# Altium integrated library Microchip Mixed Signal.IntLib: 1399 symbols (part 8 of 39)
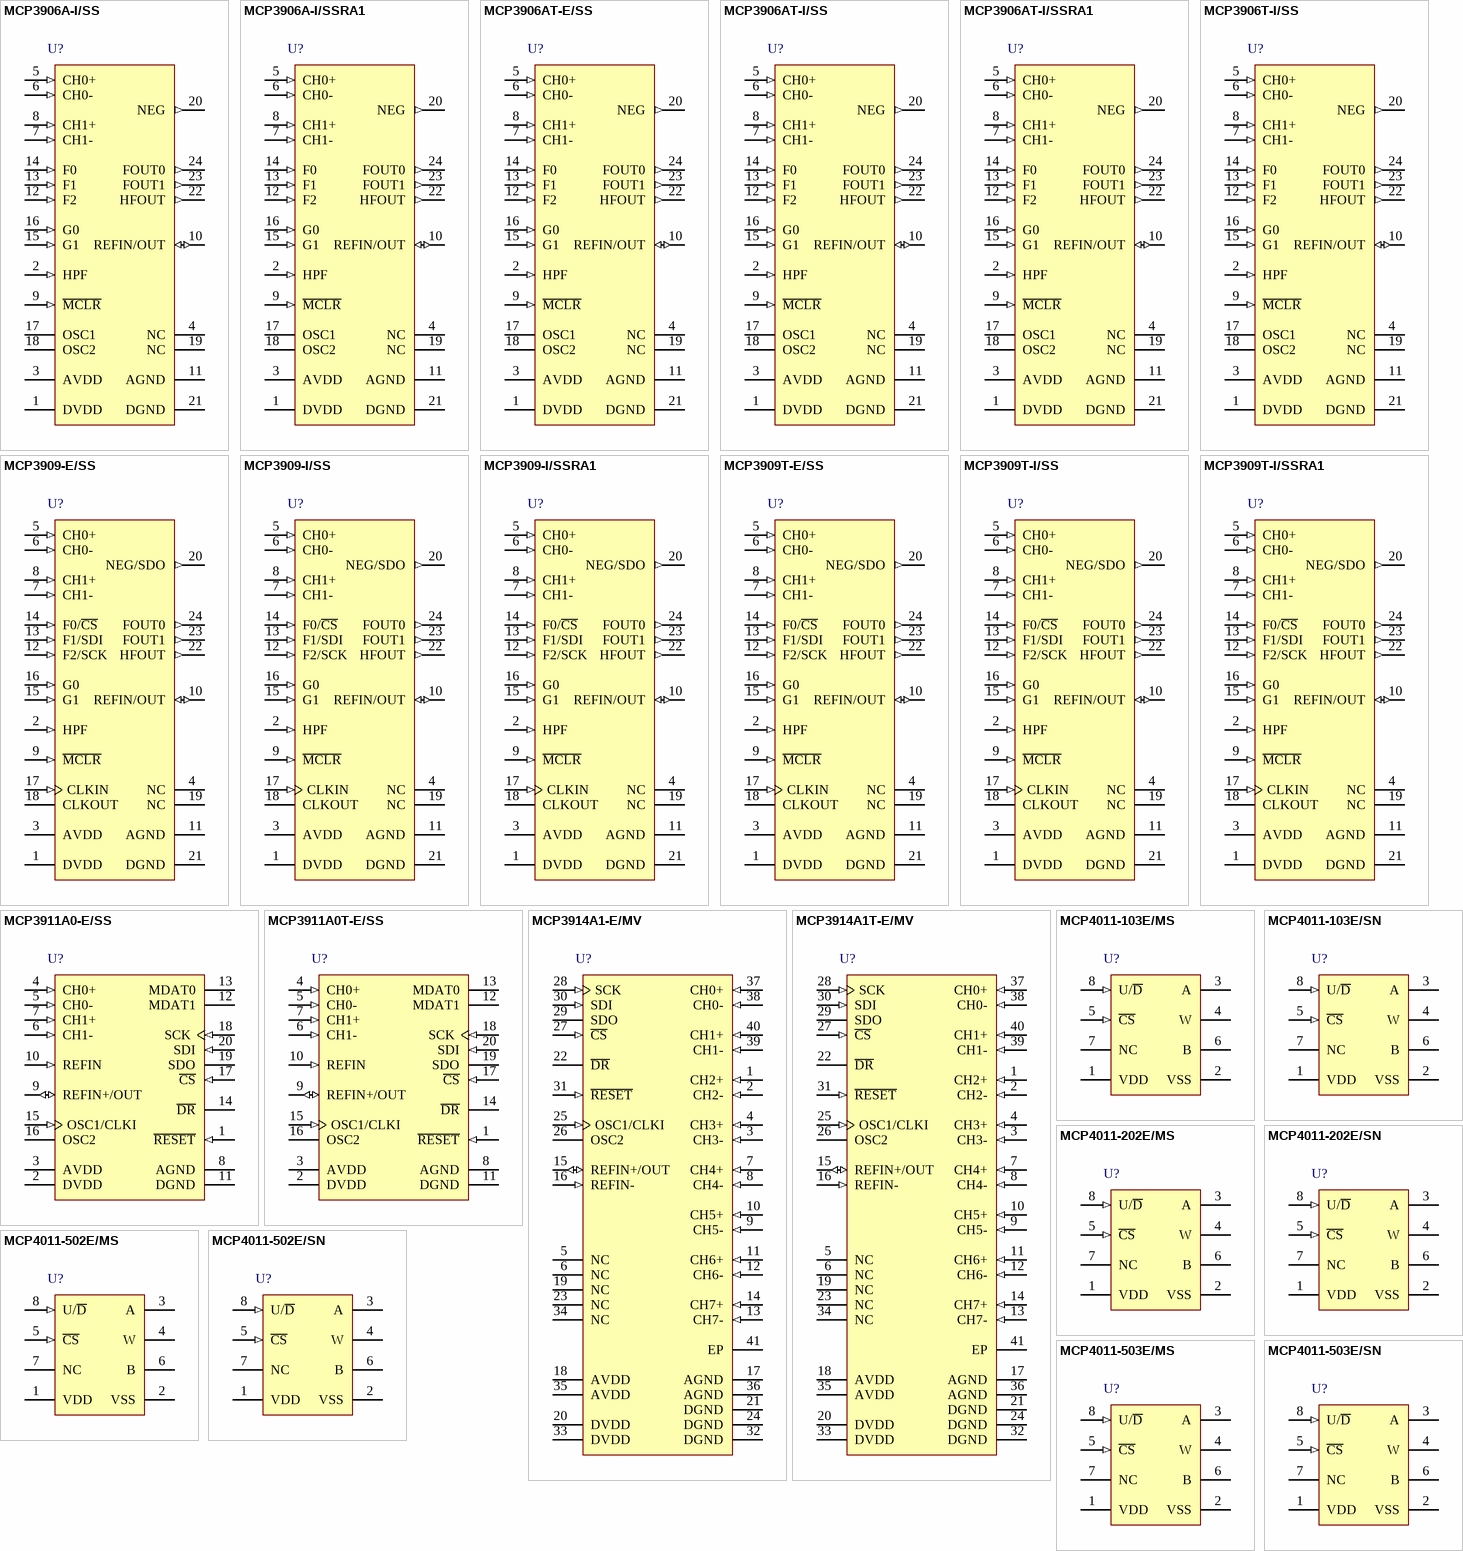
[diagram p51: symbols MCP3906A-I/SS to MCP4011-503E/SN]

## MCP3909-I/SSRA1
designator U?
Energy Metering IC with SPI Interface and Active Power Pulse Output, 24-Pin SSOP 208mil, Industrial Temperature; Manufacturer: Microchip; PartNumber: MCP3909-I/SSRA1; DatasheetVersion: revB, Apr-2009; PackageVersion: revBB, Aug-2009; PackageReference: SSOP-SS24; PackageDescription: 24-Lead Plastic Shrink Small Outline (SS) - 5.3mm Body [SSOP]; Mounting Technology: Surface Mount; Code_JEDEC: MO-150-AG; ComponentLink1Description: Manufacturer URL; ComponentLink1URL: http://www.microchip.com/; ComponentLink2Description: Datasheet; ComponentLink2URL: http://ww1.microchip.com/downloads/en/DeviceDoc/22025b.pdf; ComponentLink3Description: Package Specification; ComponentLink3URL: http://www.microchip.com/stellent/groups/techpub_sg/documents/packagingspec/en012702.pdf
footprint SSOP-SS24_N (SOP, 24-Leads, Body 8.2x5.3mm, Pitch 0.65mm, IPC Medium Density)
footprint SSOP-SS24_L (SOP, 24-Leads, Body 8.2x5.3mm, Pitch 0.65mm, IPC High Density)
footprint SSOP-SS24_M (SOP, 24-Leads, Body 8.2x5.3mm, Pitch 0.65mm, IPC Low Density)
pins: 1 DVDD (power), 2 HPF (in), 3 AVDD (power), 4 NC, 5 CH0+ (in), 6 CH0- (in), 7 CH1- (in), 8 CH1+ (in), 9 ~{MCLR} (in), 10 REFIN/OUT (io), 11 AGND (power), 12 F2/SCK (in), 13 F1/SDI (in), 14 F0/~{CS} (in), 15 G1 (in), 16 G0 (in), 17 CLKIN (in), 18 CLKOUT, 19 NC, 20 NEG/SDO (out), 21 DGND (power), 22 HFOUT (out), 23 FOUT1 (out), 24 FOUT0 (out)

## MCP3909T-E/SS
designator U?
Energy Metering IC with SPI Interface and Active Power Pulse Output, 24-Pin SSOP 208mil, Extended Temperature, Tape and Reel; Manufacturer: Microchip; PartNumber: MCP3909T-E/SS; DatasheetVersion: revB, Apr-2009; PackageVersion: revBB, Aug-2009; PackageReference: SSOP-SS24; PackageDescription: 24-Lead Plastic Shrink Small Outline (SS) - 5.3mm Body [SSOP]; Supplier 1: Digi-Key; Supplier Part Number 1: MCP3909T-E/SS-ND; Supplier 2: Mouser; Supplier Part Number 2: 579-MCP3909T-E/SS; Mounting Technology: Surface Mount; Code_JEDEC: MO-150-AG; ComponentLink1Description: Manufacturer URL; ComponentLink1URL: http://www.microchip.com/; ComponentLink2Description: Datasheet; ComponentLink2URL: http://ww1.microchip.com/downloads/en/DeviceDoc/22025b.pdf; ComponentLink3Description: Package Specification; ComponentLink3URL: http://www.microchip.com/stellent/groups/techpub_sg/documents/packagingspec/en012702.pdf
footprint SSOP-SS24_N (SOP, 24-Leads, Body 8.2x5.3mm, Pitch 0.65mm, IPC Medium Density)
footprint SSOP-SS24_L (SOP, 24-Leads, Body 8.2x5.3mm, Pitch 0.65mm, IPC High Density)
footprint SSOP-SS24_M (SOP, 24-Leads, Body 8.2x5.3mm, Pitch 0.65mm, IPC Low Density)
pins: 1 DVDD (power), 2 HPF (in), 3 AVDD (power), 4 NC, 5 CH0+ (in), 6 CH0- (in), 7 CH1- (in), 8 CH1+ (in), 9 ~{MCLR} (in), 10 REFIN/OUT (io), 11 AGND (power), 12 F2/SCK (in), 13 F1/SDI (in), 14 F0/~{CS} (in), 15 G1 (in), 16 G0 (in), 17 CLKIN (in), 18 CLKOUT, 19 NC, 20 NEG/SDO (out), 21 DGND (power), 22 HFOUT (out), 23 FOUT1 (out), 24 FOUT0 (out)

## MCP3909T-I/SS
designator U?
Energy Metering IC with SPI Interface and Active Power Pulse Output, 24-Pin SSOP 208mil, Industrial Temperature, Tape and Reel; Manufacturer: Microchip; PartNumber: MCP3909T-I/SS; DatasheetVersion: revB, Apr-2009; PackageVersion: revBB, Aug-2009; PackageReference: SSOP-SS24; PackageDescription: 24-Lead Plastic Shrink Small Outline (SS) - 5.3mm Body [SSOP]; Supplier 1: Digi-Key; Supplier Part Number 1: MCP3909T-I/SSTR-ND; Supplier 2: Newark; Supplier Part Number 2: 17M0646; Supplier 3: Mouser; Supplier Part Number 3: 579-MCP3909T-I/SS; Mounting Technology: Surface Mount; Code_JEDEC: MO-150-AG; ComponentLink1Description: Manufacturer URL; ComponentLink1URL: http://www.microchip.com/; ComponentLink2Description: Datasheet; ComponentLink2URL: http://ww1.microchip.com/downloads/en/DeviceDoc/22025b.pdf; ComponentLink3Description: Package Specification; ComponentLink3URL: http://www.microchip.com/stellent/groups/techpub_sg/documents/packagingspec/en012702.pdf
footprint SSOP-SS24_N (SOP, 24-Leads, Body 8.2x5.3mm, Pitch 0.65mm, IPC Medium Density)
footprint SSOP-SS24_L (SOP, 24-Leads, Body 8.2x5.3mm, Pitch 0.65mm, IPC High Density)
footprint SSOP-SS24_M (SOP, 24-Leads, Body 8.2x5.3mm, Pitch 0.65mm, IPC Low Density)
pins: 1 DVDD (power), 2 HPF (in), 3 AVDD (power), 4 NC, 5 CH0+ (in), 6 CH0- (in), 7 CH1- (in), 8 CH1+ (in), 9 ~{MCLR} (in), 10 REFIN/OUT (io), 11 AGND (power), 12 F2/SCK (in), 13 F1/SDI (in), 14 F0/~{CS} (in), 15 G1 (in), 16 G0 (in), 17 CLKIN (in), 18 CLKOUT, 19 NC, 20 NEG/SDO (out), 21 DGND (power), 22 HFOUT (out), 23 FOUT1 (out), 24 FOUT0 (out)

## MCP3909T-I/SSRA1
designator U?
Energy Metering IC with SPI Interface and Active Power Pulse Output, 24-Pin SSOP 208mil, Industrial Temperature, Tape and Reel; Manufacturer: Microchip; PartNumber: MCP3909T-I/SSRA1; DatasheetVersion: revB, Apr-2009; PackageVersion: revBB, Aug-2009; PackageReference: SSOP-SS24; PackageDescription: 24-Lead Plastic Shrink Small Outline (SS) - 5.3mm Body [SSOP]; Mounting Technology: Surface Mount; Code_JEDEC: MO-150-AG; ComponentLink1Description: Manufacturer URL; ComponentLink1URL: http://www.microchip.com/; ComponentLink2Description: Datasheet; ComponentLink2URL: http://ww1.microchip.com/downloads/en/DeviceDoc/22025b.pdf; ComponentLink3Description: Package Specification; ComponentLink3URL: http://www.microchip.com/stellent/groups/techpub_sg/documents/packagingspec/en012702.pdf
footprint SSOP-SS24_N (SOP, 24-Leads, Body 8.2x5.3mm, Pitch 0.65mm, IPC Medium Density)
footprint SSOP-SS24_L (SOP, 24-Leads, Body 8.2x5.3mm, Pitch 0.65mm, IPC High Density)
footprint SSOP-SS24_M (SOP, 24-Leads, Body 8.2x5.3mm, Pitch 0.65mm, IPC Low Density)
pins: 1 DVDD (power), 2 HPF (in), 3 AVDD (power), 4 NC, 5 CH0+ (in), 6 CH0- (in), 7 CH1- (in), 8 CH1+ (in), 9 ~{MCLR} (in), 10 REFIN/OUT (io), 11 AGND (power), 12 F2/SCK (in), 13 F1/SDI (in), 14 F0/~{CS} (in), 15 G1 (in), 16 G0 (in), 17 CLKIN (in), 18 CLKOUT, 19 NC, 20 NEG/SDO (out), 21 DGND (power), 22 HFOUT (out), 23 FOUT1 (out), 24 FOUT0 (out)

## MCP3911A0-E/SS
designator U?
3.3 V Two-Channel Analog Front End, 7 ppm Voltage Reference Drift, 2.7 to 3.6 V Analog Supply, -40 to 125 degC, 20-pin SSOP (SS20), Tube; Manufacturer: Microchip; PartNumber: MCP3911A0-E/SS; DatasheetVersion: Rev. A; PackageVersion: C04-072B; PackageReference: SSOP-SS20; PackageDescription: 20-Lead Plastic Shrink Small Outline, 5.3 x 7.2 mm Body, 0.65 mm Pitch; Supplier 1: Digi-Key; Supplier Part Number 1: MCP3911A0-E/SS-ND; Supplier 2: Farnell; Supplier Part Number 2: 2113275; Supplier 3: Newark; Supplier Part Number 3: 76T2235; Supplier 4: Mouser; Supplier Part Number 4: 579-MCP3911A0-E/SS; Mounting Technology: Surface Mount; ComponentLink1Description: Manufacturer URL; ComponentLink1URL: http://www.microchip.com; ComponentLink2Description: Datasheet; ComponentLink2URL: http://ww1.microchip.com/downloads/en/DeviceDoc/22286A.pdf; ComponentLink3Description: Package Specification; ComponentLink3URL: http://www.microchip.com/stellent/groups/techpub_sg/documents/packagingspec/en012702.pdf; ComponentLink4Description: Product URL; ComponentLink4URL: http://www.microchip.com/MCP3911
footprint MCHP-SSOP-SS20_N (SOP, 20-Leads, Body 7.2x5.3mm, Pitch 0.65mm, IPC Medium Density)
footprint MCHP-SSOP-SS20_L (SOP, 20-Leads, Body 7.2x5.3mm, Pitch 0.65mm, IPC High Density)
footprint MCHP-SSOP-SS20_M (SOP, 20-Leads, Body 7.2x5.3mm, Pitch 0.65mm, IPC Low Density)
pins: 1 ~{RESET} (in) "Master Reset Logic Input Pin", 2 DVDD (power) "Digital Power Supply Pin", 3 AVDD (power) "Analog Power Supply Pin", 4 CH0+ (in) "Non-Inverting Analog Input Pin for Channel 0", 5 CH0- (in) "Inverting Analog Input Pin for Channel 0", 6 CH1- (in) "Inverting Analog Input Pin for Channel 1", 7 CH1+ (in) "Non-Inverting Analog Input Pin for Channel 1", 8 AGND (power) "Analog Ground Pin, Return Path for internal analog circuitry", 9 REFIN+/OUT (io) "Non-Inverting Voltage Reference Input and Internal Reference Output Pin", 10 REFIN (in) "Inverting Voltage Reference Input Pin", 11 DGND (power) "Digital Ground Pin, Return Path for internal digital circuitry", 12 MDAT1 (hiz) "Modulator Data Output Pin for Channel 1", 13 MDAT0 (hiz) "Modulator Data Output Pin for Channel 0", 14 ~{DR} (hiz) "Data Ready Signal Output Pin", 15 OSC1/CLKI (in) "Oscillator Crystal Connection Pin or External Clock Input Pin", 16 OSC2 "Oscillator Crystal Connection Pin", 17 ~{CS} (in) "Serial Interface Chip Select Pin", 18 SCK (in) "Serial Interface Clock Input Pin", 19 SDO (hiz) "Serial Interface Data Output Pin", 20 SDI (in) "Serial Interface Data Input Pin"

## MCP3911A0T-E/SS
designator U?
3.3 V Two-Channel Analog Front End, 7 ppm Voltage Reference Drift, 2.7 to 3.6 V Analog Supply, -40 to 125 degC, 20-pin SSOP (SS20), Tape and Reel; Manufacturer: Microchip; PartNumber: MCP3911A0T-E/SS; DatasheetVersion: Rev. A; PackageVersion: C04-072B; PackageReference: SSOP-SS20; PackageDescription: 20-Lead Plastic Shrink Small Outline, 5.3 x 7.2 mm Body, 0.65 mm Pitch; Supplier 1: Digi-Key; Supplier Part Number 1: MCP3911A0T-E/SS-ND; Supplier 2: Newark; Supplier Part Number 2: 76T2237; Supplier 3: Mouser; Supplier Part Number 3: 579-MCP3911A0T-E/SS; Mounting Technology: Surface Mount; ComponentLink1Description: Manufacturer URL; ComponentLink1URL: http://www.microchip.com; ComponentLink2Description: Datasheet; ComponentLink2URL: http://ww1.microchip.com/downloads/en/DeviceDoc/22286A.pdf; ComponentLink3Description: Package Specification; ComponentLink3URL: http://www.microchip.com/stellent/groups/techpub_sg/documents/packagingspec/en012702.pdf; ComponentLink4Description: Product URL; ComponentLink4URL: http://www.microchip.com/MCP3911
footprint MCHP-SSOP-SS20_N (SOP, 20-Leads, Body 7.2x5.3mm, Pitch 0.65mm, IPC Medium Density)
footprint MCHP-SSOP-SS20_L (SOP, 20-Leads, Body 7.2x5.3mm, Pitch 0.65mm, IPC High Density)
footprint MCHP-SSOP-SS20_M (SOP, 20-Leads, Body 7.2x5.3mm, Pitch 0.65mm, IPC Low Density)
pins: 1 ~{RESET} (in) "Master Reset Logic Input Pin", 2 DVDD (power) "Digital Power Supply Pin", 3 AVDD (power) "Analog Power Supply Pin", 4 CH0+ (in) "Non-Inverting Analog Input Pin for Channel 0", 5 CH0- (in) "Inverting Analog Input Pin for Channel 0", 6 CH1- (in) "Inverting Analog Input Pin for Channel 1", 7 CH1+ (in) "Non-Inverting Analog Input Pin for Channel 1", 8 AGND (power) "Analog Ground Pin, Return Path for internal analog circuitry", 9 REFIN+/OUT (io) "Non-Inverting Voltage Reference Input and Internal Reference Output Pin", 10 REFIN (in) "Inverting Voltage Reference Input Pin", 11 DGND (power) "Digital Ground Pin, Return Path for internal digital circuitry", 12 MDAT1 (hiz) "Modulator Data Output Pin for Channel 1", 13 MDAT0 (hiz) "Modulator Data Output Pin for Channel 0", 14 ~{DR} (hiz) "Data Ready Signal Output Pin", 15 OSC1/CLKI (in) "Oscillator Crystal Connection Pin or External Clock Input Pin", 16 OSC2 "Oscillator Crystal Connection Pin", 17 ~{CS} (in) "Serial Interface Chip Select Pin", 18 SCK (in) "Serial Interface Clock Input Pin", 19 SDO (hiz) "Serial Interface Data Output Pin", 20 SDI (in) "Serial Interface Data Input Pin"

## MCP3914A1-E/MV
designator U?
3 V Eight-Channel Analog Front End, Extended Temperature, 40-Pin UQFN (MV40), Tube; Manufacturer: Microchip; PartNumber: MCP3914A1-E/MV; VCC Range: 2.7 to 3.6 V; DatasheetVersion: Rev. A; PackageVersion: C04-156A, 04/2013; PackageReference: UQFN-MV40; PackageDescription: 40-Lead Plastic Ultra Thin Quad Flat, No Lead Package, Body 5 x 5 mm, Pitch 0.4 mm; Supplier 1: Digi-Key; Supplier Part Number 1: MCP3914A1-E/MV-ND; Supplier 2: Farnell; Supplier Part Number 2: 2387237; Supplier 3: Newark; Supplier Part Number 3: 69W9818; Supplier 4: Mouser; Supplier Part Number 4: 579-MCP3914A1-E/MV; Packing: Tube; Mounting Technology: Surface Mount; ComponentLink1Description: Manufacturer URL; ComponentLink1URL: http://www.microchip.com/; ComponentLink2Description: Datasheet; ComponentLink2URL: http://ww1.microchip.com/downloads/en/DeviceDoc/20005216A.pdf; ComponentLink3Description: Package Specification; ComponentLink3URL: http://www.microchip.com/stellent/groups/techpub_sg/documents/packagingspec/en012702.pdf
footprint MCHP-UQFN-MV40_N (QFN, 40-Leads, Body 5x5mm, Pitch 0.4mm, Thermal Pad 3.7x3.7mm, IPC Medium Density)
footprint MCHP-UQFN-MV40_L (QFN, 40-Leads, Body 5x5mm, Pitch 0.4mm, Thermal Pad 3.7x3.7mm, IPC High Density)
footprint MCHP-UQFN-MV40_M (QFN, 40-Leads, Body 5x5mm, Pitch 0.4mm, Thermal Pad 3.7x3.7mm, IPC Low Density)
pins: 1 CH2+ (in) "Non-Inverting Analog Input Pin for Channel 2", 2 CH2- (in) "Inverting Analog Input Pin for Channel 2", 3 CH3- (in) "Inverting Analog Input Pin for Channel 3", 4 CH3+ (in) "Non-Inverting Analog Input Pin for Channel 3", 5 NC "No Connect", 6 NC "No Connect", 7 CH4+ (in) "Non-Inverting Analog Input Pin for Channel 4", 8 CH4- (in) "Inverting Analog Input Pin for Channel 4", 9 CH5- (in) "Inverting Analog Input Pin for Channel 5", 10 CH5+ (in) "Non-Inverting Analog Input Pin for Channel 5", 11 CH6+ (in) "Non-Inverting Analog Input Pin for Channel 6.", 12 CH6- (in) "Inverting Analog Input Pin for Channel 6", 13 CH7- (in) "Inverting Analog Input Pin for Channel 7", 14 CH7+ (in) "Non-Inverting Analog Input Pin for Channel 7", 15 REFIN+/OUT (io) "Non-Inverting Voltage Reference Input and Internal Reference Output Pin", 16 REFIN- (in) "Inverting Voltage Reference Input Pin", 17 AGND (power) "Analog Ground Pin, Return Path for internal analog circuitry", 18 AVDD (power) "Analog Power Supply Pin", 19 NC "No Connect", 20 DVDD (power) "Digital Power Supply Pin", 21 DGND (power) "Digital Ground Pin, Return Path for internal digital circuitry", 22 ~{DR} (hiz) "Data Ready Signal Output Pin", 23 NC "No Connect", 24 DGND (power) "Digital Ground Pin, Return Path for internal digital circuitry", 25 OSC1/CLKI (in) "Oscillator Crystal Connection Pin or External Clock Input", 26 OSC2 "Oscillator Crystal Connection Pin", 27 ~{CS} (in) "Serial Interface Chip Select Pin", 28 SCK (in) "Serial Interface Clock Input Pin", 29 SDO (hiz) "Serial Interface Data Output Pin", 30 SDI (in) "Serial Interface Data Input Pin", 31 ~{RESET} (in) "Master Reset Logic Input Pin", 32 DGND (power) "Digital Ground Pin, Return Path for internal digital circuitry", 33 DVDD (power) "Digital Power Supply Pin", 34 NC "No Connect", 35 AVDD (power) "Analog Power Supply Pin", 36 AGND (power) "Analog Ground Pin, Return Path for internal analog circuitry", 37 CH0+ (in) "Non-Inverting Analog Input Pin for Channel 0", 38 CH0- (in) "Inverting Analog Input Pin for Channel 0", 39 CH1- (in) "Inverting Analog Input Pin for Channel 1", 40 CH1+ (in) "Non-Inverting Analog Input Pin for Channel 1", 41 EP (power) "Exposed Thermal Pad. Must be connected to AGND or floating."

## MCP3914A1T-E/MV
designator U?
3 V Eight-Channel Analog Front End, Extended Temperature, 40-Pin UQFN (MV40), Tape and Reel; Manufacturer: Microchip; PartNumber: MCP3914A1T-E/MV; VCC Range: 2.7 to 3.6 V; DatasheetVersion: Rev. A; PackageVersion: C04-156A, 04/2013; PackageReference: UQFN-MV40; PackageDescription: 40-Lead Plastic Ultra Thin Quad Flat, No Lead Package, Body 5 x 5 mm, Pitch 0.4 mm; Supplier 1: Digi-Key; Supplier Part Number 1: MCP3914A1T-E/MV-ND; Supplier 2: Newark; Supplier Part Number 2: 69W9819; Supplier 3: Mouser; Supplier Part Number 3: 579-MCP3914A1T-E/MV; Packing: Tape and Reel; Mounting Technology: Surface Mount; ComponentLink1Description: Manufacturer URL; ComponentLink1URL: http://www.microchip.com/; ComponentLink2Description: Datasheet; ComponentLink2URL: http://ww1.microchip.com/downloads/en/DeviceDoc/20005216A.pdf; ComponentLink3Description: Package Specification; ComponentLink3URL: http://www.microchip.com/stellent/groups/techpub_sg/documents/packagingspec/en012702.pdf
footprint MCHP-UQFN-MV40_N (QFN, 40-Leads, Body 5x5mm, Pitch 0.4mm, Thermal Pad 3.7x3.7mm, IPC Medium Density)
footprint MCHP-UQFN-MV40_L (QFN, 40-Leads, Body 5x5mm, Pitch 0.4mm, Thermal Pad 3.7x3.7mm, IPC High Density)
footprint MCHP-UQFN-MV40_M (QFN, 40-Leads, Body 5x5mm, Pitch 0.4mm, Thermal Pad 3.7x3.7mm, IPC Low Density)
pins: 1 CH2+ (in) "Non-Inverting Analog Input Pin for Channel 2", 2 CH2- (in) "Inverting Analog Input Pin for Channel 2", 3 CH3- (in) "Inverting Analog Input Pin for Channel 3", 4 CH3+ (in) "Non-Inverting Analog Input Pin for Channel 3", 5 NC "No Connect", 6 NC "No Connect", 7 CH4+ (in) "Non-Inverting Analog Input Pin for Channel 4", 8 CH4- (in) "Inverting Analog Input Pin for Channel 4", 9 CH5- (in) "Inverting Analog Input Pin for Channel 5", 10 CH5+ (in) "Non-Inverting Analog Input Pin for Channel 5", 11 CH6+ (in) "Non-Inverting Analog Input Pin for Channel 6.", 12 CH6- (in) "Inverting Analog Input Pin for Channel 6", 13 CH7- (in) "Inverting Analog Input Pin for Channel 7", 14 CH7+ (in) "Non-Inverting Analog Input Pin for Channel 7", 15 REFIN+/OUT (io) "Non-Inverting Voltage Reference Input and Internal Reference Output Pin", 16 REFIN- (in) "Inverting Voltage Reference Input Pin", 17 AGND (power) "Analog Ground Pin, Return Path for internal analog circuitry", 18 AVDD (power) "Analog Power Supply Pin", 19 NC "No Connect", 20 DVDD (power) "Digital Power Supply Pin", 21 DGND (power) "Digital Ground Pin, Return Path for internal digital circuitry", 22 ~{DR} (hiz) "Data Ready Signal Output Pin", 23 NC "No Connect", 24 DGND (power) "Digital Ground Pin, Return Path for internal digital circuitry", 25 OSC1/CLKI (in) "Oscillator Crystal Connection Pin or External Clock Input", 26 OSC2 "Oscillator Crystal Connection Pin", 27 ~{CS} (in) "Serial Interface Chip Select Pin", 28 SCK (in) "Serial Interface Clock Input Pin", 29 SDO (hiz) "Serial Interface Data Output Pin", 30 SDI (in) "Serial Interface Data Input Pin", 31 ~{RESET} (in) "Master Reset Logic Input Pin", 32 DGND (power) "Digital Ground Pin, Return Path for internal digital circuitry", 33 DVDD (power) "Digital Power Supply Pin", 34 NC "No Connect", 35 AVDD (power) "Analog Power Supply Pin", 36 AGND (power) "Analog Ground Pin, Return Path for internal analog circuitry", 37 CH0+ (in) "Non-Inverting Analog Input Pin for Channel 0", 38 CH0- (in) "Inverting Analog Input Pin for Channel 0", 39 CH1- (in) "Inverting Analog Input Pin for Channel 1", 40 CH1+ (in) "Non-Inverting Analog Input Pin for Channel 1", 41 EP (power) "Exposed Thermal Pad. Must be connected to AGND or floating."

## MCP4011-103E/MS
designator U?
Low-Cost 64-Step Volatile Digital POT, 8-Pin MSOP, Extended Temperature; Manufacturer: Microchip; PartNumber: MCP4011-103E/MS; DatasheetVersion: revC, Dec-2006; PackageVersion: revBB, Aug-2009; PackageReference: MSOP-MS8; PackageDescription: 8-Lead Plastic Micro Small Outline Package (MS) [MSOP]; Supplier 1: Digi-Key; Supplier Part Number 1: MCP4011-103E/MS-ND; Supplier 2: Farnell; Supplier Part Number 2: 1840696; Supplier 3: Newark; Supplier Part Number 3: 56K7007; Supplier 4: Mouser; Supplier Part Number 4: 579-MCP4011-103E/MS; Mounting Technology: Surface Mount; ComponentLink1Description: Manufacturer URL; ComponentLink1URL: http://www.microchip.com/; ComponentLink2Description: Datasheet; ComponentLink2URL: http://ww1.microchip.com/downloads/en/DeviceDoc/21978c.pdf; ComponentLink3Description: Package Specification; ComponentLink3URL: http://www.microchip.com/stellent/groups/techpub_sg/documents/packagingspec/en012702.pdf
footprint MSOP-MS8_N (TSOP, 8-Leads, Body 3x3mm, Pitch 0.65mm, IPC Medium Density)
footprint MSOP-MS8_L (TSOP, 8-Leads, Body 3x3mm, Pitch 0.65mm, IPC High Density)
footprint MSOP-MS8_M (TSOP, 8-Leads, Body 3x3mm, Pitch 0.65mm, IPC Low Density)
pins: 1 VDD (power), 2 VSS (power), 3 A, 4 W, 5 ~{CS} (in), 6 B, 7 NC, 8 U/~{D} (in)

## MCP4011-103E/SN
designator U?
Low-Cost 64-Step Volatile Digital POT, 8-Pin SOIC 150mil, Extended Temperature; Manufacturer: Microchip; PartNumber: MCP4011-103E/SN; DatasheetVersion: revC, Dec-2006; PackageVersion: revBB, Aug-2009; PackageReference: SOIC-SN8; PackageDescription: 8-Lead Plastic Small Outline (SN) - Narrow, 3.90mm Body [SOIC]; Supplier 1: Digi-Key; Supplier Part Number 1: MCP4011-103E/SN-ND; Supplier 2: Farnell; Supplier Part Number 2: 1332103; Supplier 3: Newark; Supplier Part Number 3: 34M7452; Supplier 4: Mouser; Supplier Part Number 4: 579-MCP4011-103E/SN; Mounting Technology: Surface Mount; Code_JEDEC: MS-012; Code_IPC: SOIC127P600-8; ComponentLink1Description: Manufacturer URL; ComponentLink1URL: http://www.microchip.com/; ComponentLink2Description: Datasheet; ComponentLink2URL: http://ww1.microchip.com/downloads/en/DeviceDoc/21978c.pdf; ComponentLink3Description: Package Specification; ComponentLink3URL: http://www.microchip.com/stellent/groups/techpub_sg/documents/packagingspec/en012702.pdf
footprint SOIC-SN8_N (SOIC, 8-Leads, Body 4.9x3.8mm, Pitch 1.27mm, IPC Medium Density)
footprint SOIC-SN8_L (SOIC, 8-Leads, Body 4.9x3.8mm, Pitch 1.27mm, IPC High Density)
footprint SOIC-SN8_M (SOIC, 8-Leads, Body 4.9x3.8mm, Pitch 1.27mm, IPC Low Density)
pins: 1 VDD (power), 2 VSS (power), 3 A, 4 W, 5 ~{CS} (in), 6 B, 7 NC, 8 U/~{D} (in)

## MCP4011-202E/MS
designator U?
Low-Cost 64-Step Volatile Digital POT, 8-Pin MSOP, Extended Temperature; Manufacturer: Microchip; PartNumber: MCP4011-202E/MS; DatasheetVersion: revC, Dec-2006; PackageVersion: revBB, Aug-2009; PackageReference: MSOP-MS8; PackageDescription: 8-Lead Plastic Micro Small Outline Package (MS) [MSOP]; Supplier 1: Digi-Key; Supplier Part Number 1: MCP4011-202E/MS-ND; Supplier 2: Farnell; Supplier Part Number 2: 1840701; Supplier 3: Newark; Supplier Part Number 3: 56K7009; Supplier 4: Mouser; Supplier Part Number 4: 579-MCP4011-202E/MS; Mounting Technology: Surface Mount; ComponentLink1Description: Manufacturer URL; ComponentLink1URL: http://www.microchip.com/; ComponentLink2Description: Datasheet; ComponentLink2URL: http://ww1.microchip.com/downloads/en/DeviceDoc/21978c.pdf; ComponentLink3Description: Package Specification; ComponentLink3URL: http://www.microchip.com/stellent/groups/techpub_sg/documents/packagingspec/en012702.pdf
footprint MSOP-MS8_N (TSOP, 8-Leads, Body 3x3mm, Pitch 0.65mm, IPC Medium Density)
footprint MSOP-MS8_L (TSOP, 8-Leads, Body 3x3mm, Pitch 0.65mm, IPC High Density)
footprint MSOP-MS8_M (TSOP, 8-Leads, Body 3x3mm, Pitch 0.65mm, IPC Low Density)
pins: 1 VDD (power), 2 VSS (power), 3 A, 4 W, 5 ~{CS} (in), 6 B, 7 NC, 8 U/~{D} (in)

## MCP4011-202E/SN
designator U?
Low-Cost 64-Step Volatile Digital POT, 8-Pin SOIC 150mil, Extended Temperature; Manufacturer: Microchip; PartNumber: MCP4011-202E/SN; DatasheetVersion: revC, Dec-2006; PackageVersion: revBB, Aug-2009; PackageReference: SOIC-SN8; PackageDescription: 8-Lead Plastic Small Outline (SN) - Narrow, 3.90mm Body [SOIC]; Supplier 1: Digi-Key; Supplier Part Number 1: MCP4011-202E/SN-ND; Supplier 2: Farnell; Supplier Part Number 2: 1834918; Supplier 3: Newark; Supplier Part Number 3: 56K7010; Supplier 4: Mouser; Supplier Part Number 4: 579-MCP4011-202E/SN; Mounting Technology: Surface Mount; Code_JEDEC: MS-012; Code_IPC: SOIC127P600-8; ComponentLink1Description: Manufacturer URL; ComponentLink1URL: http://www.microchip.com/; ComponentLink2Description: Datasheet; ComponentLink2URL: http://ww1.microchip.com/downloads/en/DeviceDoc/21978c.pdf; ComponentLink3Description: Package Specification; ComponentLink3URL: http://www.microchip.com/stellent/groups/techpub_sg/documents/packagingspec/en012702.pdf
footprint SOIC-SN8_N (SOIC, 8-Leads, Body 4.9x3.8mm, Pitch 1.27mm, IPC Medium Density)
footprint SOIC-SN8_L (SOIC, 8-Leads, Body 4.9x3.8mm, Pitch 1.27mm, IPC High Density)
footprint SOIC-SN8_M (SOIC, 8-Leads, Body 4.9x3.8mm, Pitch 1.27mm, IPC Low Density)
pins: 1 VDD (power), 2 VSS (power), 3 A, 4 W, 5 ~{CS} (in), 6 B, 7 NC, 8 U/~{D} (in)

## MCP4011-502E/MS
designator U?
Low-Cost 64-Step Volatile Digital POT, 8-Pin MSOP, Extended Temperature; Manufacturer: Microchip; PartNumber: MCP4011-502E/MS; DatasheetVersion: revC, Dec-2006; PackageVersion: revBB, Aug-2009; PackageReference: MSOP-MS8; PackageDescription: 8-Lead Plastic Micro Small Outline Package (MS) [MSOP]; Supplier 1: Digi-Key; Supplier Part Number 1: MCP4011-502E/MS-ND; Supplier 2: Farnell; Supplier Part Number 2: 1840742; Supplier 3: Newark; Supplier Part Number 3: 56K7011; Supplier 4: Mouser; Supplier Part Number 4: 579-MCP4011-502E/MS; Mounting Technology: Surface Mount; ComponentLink1Description: Manufacturer URL; ComponentLink1URL: http://www.microchip.com/; ComponentLink2Description: Datasheet; ComponentLink2URL: http://ww1.microchip.com/downloads/en/DeviceDoc/21978c.pdf; ComponentLink3Description: Package Specification; ComponentLink3URL: http://www.microchip.com/stellent/groups/techpub_sg/documents/packagingspec/en012702.pdf
footprint MSOP-MS8_N (TSOP, 8-Leads, Body 3x3mm, Pitch 0.65mm, IPC Medium Density)
footprint MSOP-MS8_L (TSOP, 8-Leads, Body 3x3mm, Pitch 0.65mm, IPC High Density)
footprint MSOP-MS8_M (TSOP, 8-Leads, Body 3x3mm, Pitch 0.65mm, IPC Low Density)
pins: 1 VDD (power), 2 VSS (power), 3 A, 4 W, 5 ~{CS} (in), 6 B, 7 NC, 8 U/~{D} (in)

## MCP4011-502E/SN
designator U?
Low-Cost 64-Step Volatile Digital POT, 8-Pin SOIC 150mil, Extended Temperature; Manufacturer: Microchip; PartNumber: MCP4011-502E/SN; DatasheetVersion: revC, Dec-2006; PackageVersion: revBB, Aug-2009; PackageReference: SOIC-SN8; PackageDescription: 8-Lead Plastic Small Outline (SN) - Narrow, 3.90mm Body [SOIC]; Supplier 1: Digi-Key; Supplier Part Number 1: MCP4011-502E/SN-ND; Supplier 2: Farnell; Supplier Part Number 2: 1332104; Supplier 3: Newark; Supplier Part Number 3: 56K7012; Supplier 4: Mouser; Supplier Part Number 4: 579-MCP4011-502E/SN; Mounting Technology: Surface Mount; Code_JEDEC: MS-012; Code_IPC: SOIC127P600-8; ComponentLink1Description: Manufacturer URL; ComponentLink1URL: http://www.microchip.com/; ComponentLink2Description: Datasheet; ComponentLink2URL: http://ww1.microchip.com/downloads/en/DeviceDoc/21978c.pdf; ComponentLink3Description: Package Specification; ComponentLink3URL: http://www.microchip.com/stellent/groups/techpub_sg/documents/packagingspec/en012702.pdf
footprint SOIC-SN8_N (SOIC, 8-Leads, Body 4.9x3.8mm, Pitch 1.27mm, IPC Medium Density)
footprint SOIC-SN8_L (SOIC, 8-Leads, Body 4.9x3.8mm, Pitch 1.27mm, IPC High Density)
footprint SOIC-SN8_M (SOIC, 8-Leads, Body 4.9x3.8mm, Pitch 1.27mm, IPC Low Density)
pins: 1 VDD (power), 2 VSS (power), 3 A, 4 W, 5 ~{CS} (in), 6 B, 7 NC, 8 U/~{D} (in)

## MCP4011-503E/MS
designator U?
Low-Cost 64-Step Volatile Digital POT, 8-Pin MSOP, Extended Temperature; Manufacturer: Microchip; PartNumber: MCP4011-503E/MS; DatasheetVersion: revC, Dec-2006; PackageVersion: revBB, Aug-2009; PackageReference: MSOP-MS8; PackageDescription: 8-Lead Plastic Micro Small Outline Package (MS) [MSOP]; Supplier 1: Digi-Key; Supplier Part Number 1: MCP4011-503E/MS-ND; Supplier 2: Farnell; Supplier Part Number 2: 1834919; Supplier 3: Newark; Supplier Part Number 3: 56K7013; Supplier 4: Mouser; Supplier Part Number 4: 579-MCP4011-503E/MS; Mounting Technology: Surface Mount; ComponentLink1Description: Manufacturer URL; ComponentLink1URL: http://www.microchip.com/; ComponentLink2Description: Datasheet; ComponentLink2URL: http://ww1.microchip.com/downloads/en/DeviceDoc/21978c.pdf; ComponentLink3Description: Package Specification; ComponentLink3URL: http://www.microchip.com/stellent/groups/techpub_sg/documents/packagingspec/en012702.pdf
footprint MSOP-MS8_N (TSOP, 8-Leads, Body 3x3mm, Pitch 0.65mm, IPC Medium Density)
footprint MSOP-MS8_L (TSOP, 8-Leads, Body 3x3mm, Pitch 0.65mm, IPC High Density)
footprint MSOP-MS8_M (TSOP, 8-Leads, Body 3x3mm, Pitch 0.65mm, IPC Low Density)
pins: 1 VDD (power), 2 VSS (power), 3 A, 4 W, 5 ~{CS} (in), 6 B, 7 NC, 8 U/~{D} (in)

## MCP4011-503E/SN
designator U?
Low-Cost 64-Step Volatile Digital POT, 8-Pin SOIC 150mil, Extended Temperature; Manufacturer: Microchip; PartNumber: MCP4011-503E/SN; DatasheetVersion: revC, Dec-2006; PackageVersion: revBB, Aug-2009; PackageReference: SOIC-SN8; PackageDescription: 8-Lead Plastic Small Outline (SN) - Narrow, 3.90mm Body [SOIC]; Supplier 1: Digi-Key; Supplier Part Number 1: MCP4011-503E/SN-ND; Supplier 2: Farnell; Supplier Part Number 2: 1605570; Supplier 3: Newark; Supplier Part Number 3: 56K7014; Supplier 4: Mouser; Supplier Part Number 4: 579-MCP4011-503E/SN; Mounting Technology: Surface Mount; Code_JEDEC: MS-012; Code_IPC: SOIC127P600-8; ComponentLink1Description: Manufacturer URL; ComponentLink1URL: http://www.microchip.com/; ComponentLink2Description: Datasheet; ComponentLink2URL: http://ww1.microchip.com/downloads/en/DeviceDoc/21978c.pdf; ComponentLink3Description: Package Specification; ComponentLink3URL: http://www.microchip.com/stellent/groups/techpub_sg/documents/packagingspec/en012702.pdf
footprint SOIC-SN8_N (SOIC, 8-Leads, Body 4.9x3.8mm, Pitch 1.27mm, IPC Medium Density)
footprint SOIC-SN8_L (SOIC, 8-Leads, Body 4.9x3.8mm, Pitch 1.27mm, IPC High Density)
footprint SOIC-SN8_M (SOIC, 8-Leads, Body 4.9x3.8mm, Pitch 1.27mm, IPC Low Density)
pins: 1 VDD (power), 2 VSS (power), 3 A, 4 W, 5 ~{CS} (in), 6 B, 7 NC, 8 U/~{D} (in)

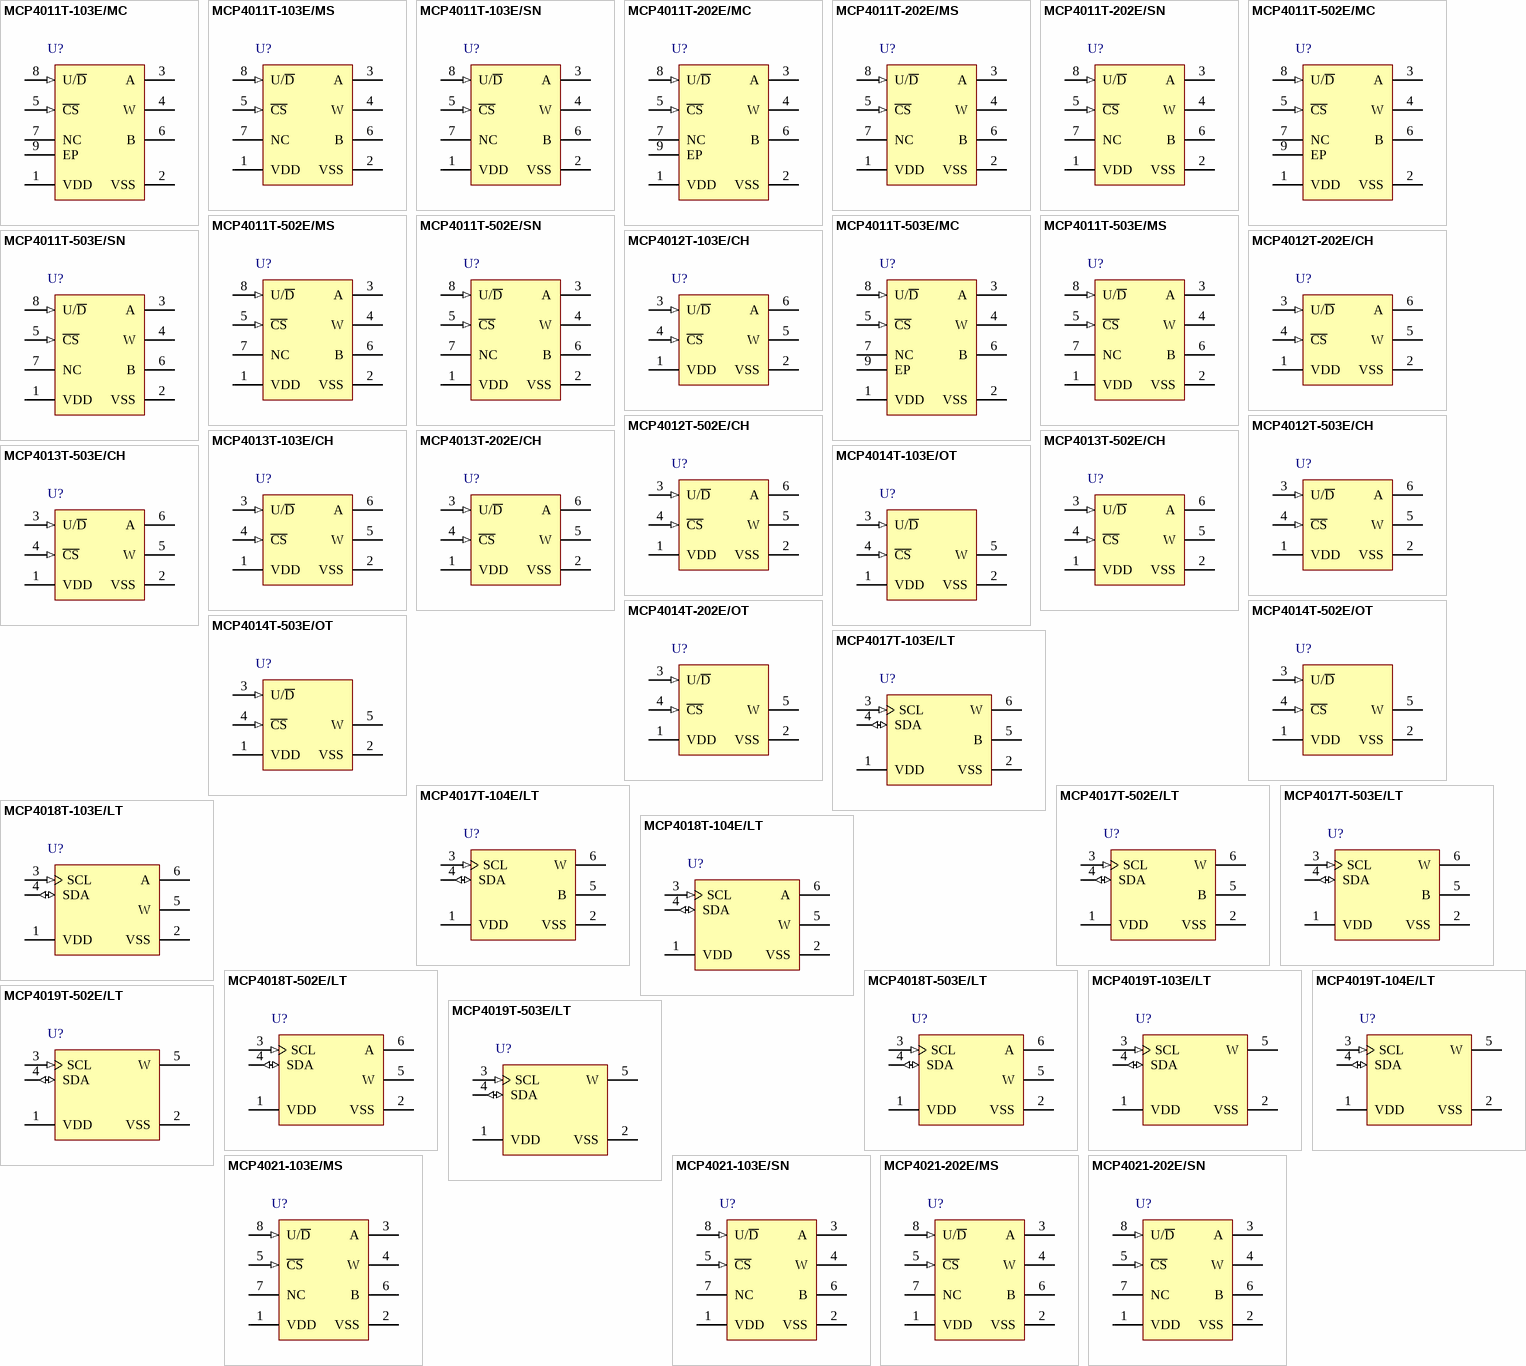
[diagram p8: symbols MCP4011T-103E/MC to MCP4021-202E/SN]

## MCP4011T-103E/MC
designator U?
Low-Cost 64-Step Volatile Digital POT, 8-Pin DFN, Extended Temperature, Tape and Reel; Manufacturer: Microchip; PartNumber: MCP4011T-103E/MC; DatasheetVersion: revC, Dec-2006; PackageVersion: revBB, Aug-2009; PackageReference: DFN-MC8; PackageDescription: 8-Lead Plastic Dual Flat, No Lead Package (MC) - 2x3x0.9mm Body [DFN]; Supplier 1: Digi-Key; Supplier Part Number 1: MCP4011T-103E/MCTR-ND; Supplier 2: Digi-Key; Supplier Part Number 2: MCP4011T-103E/MCCT-ND; Supplier 3: Digi-Key; Supplier Part Number 3: MCP4011T-103E/MCDKR-ND; Supplier 4: Mouser; Supplier Part Number 4: 579-MCP4011T-103E/MC; Mounting Technology: Surface Mount; ComponentLink1Description: Manufacturer URL; ComponentLink1URL: http://www.microchip.com/; ComponentLink2Description: Datasheet; ComponentLink2URL: http://ww1.microchip.com/downloads/en/DeviceDoc/21978c.pdf; ComponentLink3Description: Package Specification; ComponentLink3URL: http://www.microchip.com/stellent/groups/techpub_sg/documents/packagingspec/en012702.pdf
footprint DFN-MC8 (SON, 8-Leads, Body 2x3mm, Pitch 0.5mm, Microchip Recommended)
pins: 1 VDD (power), 2 VSS (power), 3 A, 4 W, 5 ~{CS} (in), 6 B, 7 NC, 8 U/~{D} (in), 9 EP

## MCP4011T-103E/MS
designator U?
Low-Cost 64-Step Volatile Digital POT, 8-Pin MSOP, Extended Temperature, Tape and Reel; Manufacturer: Microchip; PartNumber: MCP4011T-103E/MS; DatasheetVersion: revC, Dec-2006; PackageVersion: revBB, Aug-2009; PackageReference: MSOP-MS8; PackageDescription: 8-Lead Plastic Micro Small Outline Package (MS) [MSOP]; Supplier 1: Digi-Key; Supplier Part Number 1: MCP4011T-103E/MS-ND; Supplier 2: Mouser; Supplier Part Number 2: 579-MCP4011T-103E/MS; Mounting Technology: Surface Mount; ComponentLink1Description: Manufacturer URL; ComponentLink1URL: http://www.microchip.com/; ComponentLink2Description: Datasheet; ComponentLink2URL: http://ww1.microchip.com/downloads/en/DeviceDoc/21978c.pdf; ComponentLink3Description: Package Specification; ComponentLink3URL: http://www.microchip.com/stellent/groups/techpub_sg/documents/packagingspec/en012702.pdf
footprint MSOP-MS8_N (TSOP, 8-Leads, Body 3x3mm, Pitch 0.65mm, IPC Medium Density)
footprint MSOP-MS8_L (TSOP, 8-Leads, Body 3x3mm, Pitch 0.65mm, IPC High Density)
footprint MSOP-MS8_M (TSOP, 8-Leads, Body 3x3mm, Pitch 0.65mm, IPC Low Density)
pins: 1 VDD (power), 2 VSS (power), 3 A, 4 W, 5 ~{CS} (in), 6 B, 7 NC, 8 U/~{D} (in)

## MCP4011T-103E/SN
designator U?
Low-Cost 64-Step Volatile Digital POT, 8-Pin SOIC 150mil, Extended Temperature, Tape and Reel; Manufacturer: Microchip; PartNumber: MCP4011T-103E/SN; DatasheetVersion: revC, Dec-2006; PackageVersion: revBB, Aug-2009; PackageReference: SOIC-SN8; PackageDescription: 8-Lead Plastic Small Outline (SN) - Narrow, 3.90mm Body [SOIC]; Supplier 1: Digi-Key; Supplier Part Number 1: MCP4011T-103E/SN-ND; Supplier 2: Mouser; Supplier Part Number 2: 579-MCP4011T-103E/SN; Mounting Technology: Surface Mount; Code_JEDEC: MS-012; Code_IPC: SOIC127P600-8; ComponentLink1Description: Manufacturer URL; ComponentLink1URL: http://www.microchip.com/; ComponentLink2Description: Datasheet; ComponentLink2URL: http://ww1.microchip.com/downloads/en/DeviceDoc/21978c.pdf; ComponentLink3Description: Package Specification; ComponentLink3URL: http://www.microchip.com/stellent/groups/techpub_sg/documents/packagingspec/en012702.pdf
footprint SOIC-SN8_N (SOIC, 8-Leads, Body 4.9x3.8mm, Pitch 1.27mm, IPC Medium Density)
footprint SOIC-SN8_L (SOIC, 8-Leads, Body 4.9x3.8mm, Pitch 1.27mm, IPC High Density)
footprint SOIC-SN8_M (SOIC, 8-Leads, Body 4.9x3.8mm, Pitch 1.27mm, IPC Low Density)
pins: 1 VDD (power), 2 VSS (power), 3 A, 4 W, 5 ~{CS} (in), 6 B, 7 NC, 8 U/~{D} (in)

## MCP4011T-202E/MC
designator U?
Low-Cost 64-Step Volatile Digital POT, 8-Pin DFN, Extended Temperature, Tape and Reel; Manufacturer: Microchip; PartNumber: MCP4011T-202E/MC; DatasheetVersion: revC, Dec-2006; PackageVersion: revBB, Aug-2009; PackageReference: DFN-MC8; PackageDescription: 8-Lead Plastic Dual Flat, No Lead Package (MC) - 2x3x0.9mm Body [DFN]; Supplier 1: Digi-Key; Supplier Part Number 1: MCP4011T-202E/MCTR-ND; Supplier 2: Digi-Key; Supplier Part Number 2: MCP4011T-202E/MCCT-ND; Supplier 3: Digi-Key; Supplier Part Number 3: MCP4011T-202E/MCDKR-ND; Supplier 4: Mouser; Supplier Part Number 4: 579-MCP4011T-202E/MC; Mounting Technology: Surface Mount; ComponentLink1Description: Manufacturer URL; ComponentLink1URL: http://www.microchip.com/; ComponentLink2Description: Datasheet; ComponentLink2URL: http://ww1.microchip.com/downloads/en/DeviceDoc/21978c.pdf; ComponentLink3Description: Package Specification; ComponentLink3URL: http://www.microchip.com/stellent/groups/techpub_sg/documents/packagingspec/en012702.pdf
footprint DFN-MC8 (SON, 8-Leads, Body 2x3mm, Pitch 0.5mm, Microchip Recommended)
pins: 1 VDD (power), 2 VSS (power), 3 A, 4 W, 5 ~{CS} (in), 6 B, 7 NC, 8 U/~{D} (in), 9 EP

## MCP4011T-202E/MS
designator U?
Low-Cost 64-Step Volatile Digital POT, 8-Pin MSOP, Extended Temperature, Tape and Reel; Manufacturer: Microchip; PartNumber: MCP4011T-202E/MS; DatasheetVersion: revC, Dec-2006; PackageVersion: revBB, Aug-2009; PackageReference: MSOP-MS8; PackageDescription: 8-Lead Plastic Micro Small Outline Package (MS) [MSOP]; Supplier 1: Digi-Key; Supplier Part Number 1: MCP4011T-202E/MS-ND; Supplier 2: Mouser; Supplier Part Number 2: 579-MCP4011T-202E/MS; Mounting Technology: Surface Mount; ComponentLink1Description: Manufacturer URL; ComponentLink1URL: http://www.microchip.com/; ComponentLink2Description: Datasheet; ComponentLink2URL: http://ww1.microchip.com/downloads/en/DeviceDoc/21978c.pdf; ComponentLink3Description: Package Specification; ComponentLink3URL: http://www.microchip.com/stellent/groups/techpub_sg/documents/packagingspec/en012702.pdf
footprint MSOP-MS8_N (TSOP, 8-Leads, Body 3x3mm, Pitch 0.65mm, IPC Medium Density)
footprint MSOP-MS8_L (TSOP, 8-Leads, Body 3x3mm, Pitch 0.65mm, IPC High Density)
footprint MSOP-MS8_M (TSOP, 8-Leads, Body 3x3mm, Pitch 0.65mm, IPC Low Density)
pins: 1 VDD (power), 2 VSS (power), 3 A, 4 W, 5 ~{CS} (in), 6 B, 7 NC, 8 U/~{D} (in)

## MCP4011T-202E/SN
designator U?
Low-Cost 64-Step Volatile Digital POT, 8-Pin SOIC 150mil, Extended Temperature, Tape and Reel; Manufacturer: Microchip; PartNumber: MCP4011T-202E/SN; DatasheetVersion: revC, Dec-2006; PackageVersion: revBB, Aug-2009; PackageReference: SOIC-SN8; PackageDescription: 8-Lead Plastic Small Outline (SN) - Narrow, 3.90mm Body [SOIC]; Supplier 1: Digi-Key; Supplier Part Number 1: MCP4011T-202E/SN-ND; Supplier 2: Mouser; Supplier Part Number 2: 579-MCP4011T-202E/SN; Mounting Technology: Surface Mount; Code_JEDEC: MS-012; Code_IPC: SOIC127P600-8; ComponentLink1Description: Manufacturer URL; ComponentLink1URL: http://www.microchip.com/; ComponentLink2Description: Datasheet; ComponentLink2URL: http://ww1.microchip.com/downloads/en/DeviceDoc/21978c.pdf; ComponentLink3Description: Package Specification; ComponentLink3URL: http://www.microchip.com/stellent/groups/techpub_sg/documents/packagingspec/en012702.pdf
footprint SOIC-SN8_N (SOIC, 8-Leads, Body 4.9x3.8mm, Pitch 1.27mm, IPC Medium Density)
footprint SOIC-SN8_L (SOIC, 8-Leads, Body 4.9x3.8mm, Pitch 1.27mm, IPC High Density)
footprint SOIC-SN8_M (SOIC, 8-Leads, Body 4.9x3.8mm, Pitch 1.27mm, IPC Low Density)
pins: 1 VDD (power), 2 VSS (power), 3 A, 4 W, 5 ~{CS} (in), 6 B, 7 NC, 8 U/~{D} (in)

## MCP4011T-502E/MC
designator U?
Low-Cost 64-Step Volatile Digital POT, 8-Pin DFN, Extended Temperature, Tape and Reel; Manufacturer: Microchip; PartNumber: MCP4011T-502E/MC; DatasheetVersion: revC, Dec-2006; PackageVersion: revBB, Aug-2009; PackageReference: DFN-MC8; PackageDescription: 8-Lead Plastic Dual Flat, No Lead Package (MC) - 2x3x0.9mm Body [DFN]; Supplier 1: Digi-Key; Supplier Part Number 1: MCP4011T-502E/MCTR-ND; Supplier 2: Digi-Key; Supplier Part Number 2: MCP4011T-502E/MCCT-ND; Supplier 3: Digi-Key; Supplier Part Number 3: MCP4011T-502E/MCDKR-ND; Supplier 4: Mouser; Supplier Part Number 4: 579-MCP4011T-502E/MC; Mounting Technology: Surface Mount; ComponentLink1Description: Manufacturer URL; ComponentLink1URL: http://www.microchip.com/; ComponentLink2Description: Datasheet; ComponentLink2URL: http://ww1.microchip.com/downloads/en/DeviceDoc/21978c.pdf; ComponentLink3Description: Package Specification; ComponentLink3URL: http://www.microchip.com/stellent/groups/techpub_sg/documents/packagingspec/en012702.pdf
footprint DFN-MC8 (SON, 8-Leads, Body 2x3mm, Pitch 0.5mm, Microchip Recommended)
pins: 1 VDD (power), 2 VSS (power), 3 A, 4 W, 5 ~{CS} (in), 6 B, 7 NC, 8 U/~{D} (in), 9 EP

## MCP4011T-502E/MS
designator U?
Low-Cost 64-Step Volatile Digital POT, 8-Pin MSOP, Extended Temperature, Tape and Reel; Manufacturer: Microchip; PartNumber: MCP4011T-502E/MS; DatasheetVersion: revC, Dec-2006; PackageVersion: revBB, Aug-2009; PackageReference: MSOP-MS8; PackageDescription: 8-Lead Plastic Micro Small Outline Package (MS) [MSOP]; Supplier 1: Digi-Key; Supplier Part Number 1: MCP4011T-502E/MS-ND; Supplier 2: Mouser; Supplier Part Number 2: 579-MCP4011T-502E/MS; Mounting Technology: Surface Mount; ComponentLink1Description: Manufacturer URL; ComponentLink1URL: http://www.microchip.com/; ComponentLink2Description: Datasheet; ComponentLink2URL: http://ww1.microchip.com/downloads/en/DeviceDoc/21978c.pdf; ComponentLink3Description: Package Specification; ComponentLink3URL: http://www.microchip.com/stellent/groups/techpub_sg/documents/packagingspec/en012702.pdf
footprint MSOP-MS8_N (TSOP, 8-Leads, Body 3x3mm, Pitch 0.65mm, IPC Medium Density)
footprint MSOP-MS8_L (TSOP, 8-Leads, Body 3x3mm, Pitch 0.65mm, IPC High Density)
footprint MSOP-MS8_M (TSOP, 8-Leads, Body 3x3mm, Pitch 0.65mm, IPC Low Density)
pins: 1 VDD (power), 2 VSS (power), 3 A, 4 W, 5 ~{CS} (in), 6 B, 7 NC, 8 U/~{D} (in)

## MCP4011T-502E/SN
designator U?
Low-Cost 64-Step Volatile Digital POT, 8-Pin SOIC 150mil, Extended Temperature, Tape and Reel; Manufacturer: Microchip; PartNumber: MCP4011T-502E/SN; DatasheetVersion: revC, Dec-2006; PackageVersion: revBB, Aug-2009; PackageReference: SOIC-SN8; PackageDescription: 8-Lead Plastic Small Outline (SN) - Narrow, 3.90mm Body [SOIC]; Supplier 1: Digi-Key; Supplier Part Number 1: MCP4011T-502E/SN-ND; Supplier 2: Mouser; Supplier Part Number 2: 579-MCP4011T-502E/SN; Mounting Technology: Surface Mount; Code_JEDEC: MS-012; Code_IPC: SOIC127P600-8; ComponentLink1Description: Manufacturer URL; ComponentLink1URL: http://www.microchip.com/; ComponentLink2Description: Datasheet; ComponentLink2URL: http://ww1.microchip.com/downloads/en/DeviceDoc/21978c.pdf; ComponentLink3Description: Package Specification; ComponentLink3URL: http://www.microchip.com/stellent/groups/techpub_sg/documents/packagingspec/en012702.pdf
footprint SOIC-SN8_N (SOIC, 8-Leads, Body 4.9x3.8mm, Pitch 1.27mm, IPC Medium Density)
footprint SOIC-SN8_L (SOIC, 8-Leads, Body 4.9x3.8mm, Pitch 1.27mm, IPC High Density)
footprint SOIC-SN8_M (SOIC, 8-Leads, Body 4.9x3.8mm, Pitch 1.27mm, IPC Low Density)
pins: 1 VDD (power), 2 VSS (power), 3 A, 4 W, 5 ~{CS} (in), 6 B, 7 NC, 8 U/~{D} (in)

## MCP4011T-503E/MC
designator U?
Low-Cost 64-Step Volatile Digital POT, 8-Pin DFN, Extended Temperature, Tape and Reel; Manufacturer: Microchip; PartNumber: MCP4011T-503E/MC; DatasheetVersion: revC, Dec-2006; PackageVersion: revBB, Aug-2009; PackageReference: DFN-MC8; PackageDescription: 8-Lead Plastic Dual Flat, No Lead Package (MC) - 2x3x0.9mm Body [DFN]; Supplier 1: Digi-Key; Supplier Part Number 1: MCP4011T-503E/MCTR-ND; Supplier 2: Digi-Key; Supplier Part Number 2: MCP4011T-503E/MCCT-ND; Supplier 3: Digi-Key; Supplier Part Number 3: MCP4011T-503E/MCDKR-ND; Supplier 4: Mouser; Supplier Part Number 4: 579-MCP4011T-503E/MC; Mounting Technology: Surface Mount; ComponentLink1Description: Manufacturer URL; ComponentLink1URL: http://www.microchip.com/; ComponentLink2Description: Datasheet; ComponentLink2URL: http://ww1.microchip.com/downloads/en/DeviceDoc/21978c.pdf; ComponentLink3Description: Package Specification; ComponentLink3URL: http://www.microchip.com/stellent/groups/techpub_sg/documents/packagingspec/en012702.pdf
footprint DFN-MC8 (SON, 8-Leads, Body 2x3mm, Pitch 0.5mm, Microchip Recommended)
pins: 1 VDD (power), 2 VSS (power), 3 A, 4 W, 5 ~{CS} (in), 6 B, 7 NC, 8 U/~{D} (in), 9 EP

## MCP4011T-503E/MS
designator U?
Low-Cost 64-Step Volatile Digital POT, 8-Pin MSOP, Extended Temperature, Tape and Reel; Manufacturer: Microchip; PartNumber: MCP4011T-503E/MS; DatasheetVersion: revC, Dec-2006; PackageVersion: revBB, Aug-2009; PackageReference: MSOP-MS8; PackageDescription: 8-Lead Plastic Micro Small Outline Package (MS) [MSOP]; Supplier 1: Digi-Key; Supplier Part Number 1: MCP4011T-503E/MS-ND; Supplier 2: Mouser; Supplier Part Number 2: 579-MCP4011T-503E/MS; Mounting Technology: Surface Mount; ComponentLink1Description: Manufacturer URL; ComponentLink1URL: http://www.microchip.com/; ComponentLink2Description: Datasheet; ComponentLink2URL: http://ww1.microchip.com/downloads/en/DeviceDoc/21978c.pdf; ComponentLink3Description: Package Specification; ComponentLink3URL: http://www.microchip.com/stellent/groups/techpub_sg/documents/packagingspec/en012702.pdf
footprint MSOP-MS8_N (TSOP, 8-Leads, Body 3x3mm, Pitch 0.65mm, IPC Medium Density)
footprint MSOP-MS8_L (TSOP, 8-Leads, Body 3x3mm, Pitch 0.65mm, IPC High Density)
footprint MSOP-MS8_M (TSOP, 8-Leads, Body 3x3mm, Pitch 0.65mm, IPC Low Density)
pins: 1 VDD (power), 2 VSS (power), 3 A, 4 W, 5 ~{CS} (in), 6 B, 7 NC, 8 U/~{D} (in)

## MCP4011T-503E/SN
designator U?
Low-Cost 64-Step Volatile Digital POT, 8-Pin SOIC 150mil, Extended Temperature, Tape and Reel; Manufacturer: Microchip; PartNumber: MCP4011T-503E/SN; DatasheetVersion: revC, Dec-2006; PackageVersion: revBB, Aug-2009; PackageReference: SOIC-SN8; PackageDescription: 8-Lead Plastic Small Outline (SN) - Narrow, 3.90mm Body [SOIC]; Supplier 1: Digi-Key; Supplier Part Number 1: MCP4011T-503E/SN-ND; Supplier 2: Mouser; Supplier Part Number 2: 579-MCP4011T-503E/SN; Mounting Technology: Surface Mount; Code_JEDEC: MS-012; Code_IPC: SOIC127P600-8; ComponentLink1Description: Manufacturer URL; ComponentLink1URL: http://www.microchip.com/; ComponentLink2Description: Datasheet; ComponentLink2URL: http://ww1.microchip.com/downloads/en/DeviceDoc/21978c.pdf; ComponentLink3Description: Package Specification; ComponentLink3URL: http://www.microchip.com/stellent/groups/techpub_sg/documents/packagingspec/en012702.pdf
footprint SOIC-SN8_N (SOIC, 8-Leads, Body 4.9x3.8mm, Pitch 1.27mm, IPC Medium Density)
footprint SOIC-SN8_L (SOIC, 8-Leads, Body 4.9x3.8mm, Pitch 1.27mm, IPC High Density)
footprint SOIC-SN8_M (SOIC, 8-Leads, Body 4.9x3.8mm, Pitch 1.27mm, IPC Low Density)
pins: 1 VDD (power), 2 VSS (power), 3 A, 4 W, 5 ~{CS} (in), 6 B, 7 NC, 8 U/~{D} (in)

## MCP4012T-103E/CH
designator U?
Low-Cost 64-Step Volatile Digital POT, 6-Pin SOT-23, Extended Temperature, Tape and Reel; Manufacturer: Microchip; PartNumber: MCP4012T-103E/CH; DatasheetVersion: revC, Dec-2006; PackageVersion: revBB, Aug-2009; PackageReference: SOT-23-CH6; PackageDescription: 6-Lead Plastic Small Outline Transistor (CH) [SOT-23]; Supplier 1: Digi-Key; Supplier Part Number 1: MCP4012T-103E/CHTR-ND; Supplier 2: Digi-Key; Supplier Part Number 2: MCP4012T-103E/CHCT-ND; Supplier 3: Digi-Key; Supplier Part Number 3: MCP4012T-103E/CHDKR-ND; Supplier 4: Farnell; Supplier Part Number 4: 1834920; Supplier 5: Farnell; Supplier Part Number 5: 1834920RL; Supplier 6: Newark; Supplier Part Number 6: 84R6246; Supplier 7: Mouser; Supplier Part Number 7: 579-MCP4012T-103E/CH; Mounting Technology: Surface Mount; Code_IPC: SOT26A-6; ComponentLink1Description: Manufacturer URL; ComponentLink1URL: http://www.microchip.com/; ComponentLink2Description: Datasheet; ComponentLink2URL: http://ww1.microchip.com/downloads/en/DeviceDoc/21978c.pdf; ComponentLink3Description: Package Specification; ComponentLink3URL: http://www.microchip.com/stellent/groups/techpub_sg/documents/packagingspec/en012702.pdf
footprint SOT-23-CH6_N (SOT23, 6-Leads, Body 2.9x1.6mm, Pitch 0.95mm, Lead Span 2.7mm, IPC Medium Density)
footprint SOT-23-CH6_L (SOT23, 6-Leads, Body 2.9x1.6mm, Pitch 0.95mm, Lead Span 2.7mm, IPC High Density)
footprint SOT-23-CH6_M (SOT23, 6-Leads, Body 2.9x1.6mm, Pitch 0.95mm, Lead Span 2.7mm, IPC Low Density)
pins: 1 VDD (power), 2 VSS (power), 3 U/~{D} (in), 4 ~{CS} (in), 5 W, 6 A

## MCP4012T-202E/CH
designator U?
Low-Cost 64-Step Volatile Digital POT, 6-Pin SOT-23, Extended Temperature, Tape and Reel; Manufacturer: Microchip; PartNumber: MCP4012T-202E/CH; DatasheetVersion: revC, Dec-2006; PackageVersion: revBB, Aug-2009; PackageReference: SOT-23-CH6; PackageDescription: 6-Lead Plastic Small Outline Transistor (CH) [SOT-23]; Supplier 1: Digi-Key; Supplier Part Number 1: MCP4012T-202E/CHTR-ND; Supplier 2: Digi-Key; Supplier Part Number 2: MCP4012T-202E/CHCT-ND; Supplier 3: Digi-Key; Supplier Part Number 3: MCP4012T-202E/CHDKR-ND; Supplier 4: Farnell; Supplier Part Number 4: 1834921RL; Supplier 5: Farnell; Supplier Part Number 5: 1834921; Supplier 6: Newark; Supplier Part Number 6: 56K7028; Supplier 7: Mouser; Supplier Part Number 7: 579-MCP4012T-202E/CH; Mounting Technology: Surface Mount; Code_IPC: SOT26A-6; ComponentLink1Description: Manufacturer URL; ComponentLink1URL: http://www.microchip.com/; ComponentLink2Description: Datasheet; ComponentLink2URL: http://ww1.microchip.com/downloads/en/DeviceDoc/21978c.pdf; ComponentLink3Description: Package Specification; ComponentLink3URL: http://www.microchip.com/stellent/groups/techpub_sg/documents/packagingspec/en012702.pdf
footprint SOT-23-CH6_N (SOT23, 6-Leads, Body 2.9x1.6mm, Pitch 0.95mm, Lead Span 2.7mm, IPC Medium Density)
footprint SOT-23-CH6_L (SOT23, 6-Leads, Body 2.9x1.6mm, Pitch 0.95mm, Lead Span 2.7mm, IPC High Density)
footprint SOT-23-CH6_M (SOT23, 6-Leads, Body 2.9x1.6mm, Pitch 0.95mm, Lead Span 2.7mm, IPC Low Density)
pins: 1 VDD (power), 2 VSS (power), 3 U/~{D} (in), 4 ~{CS} (in), 5 W, 6 A

## MCP4012T-502E/CH
designator U?
Low-Cost 64-Step Volatile Digital POT, 6-Pin SOT-23, Extended Temperature, Tape and Reel; Manufacturer: Microchip; PartNumber: MCP4012T-502E/CH; DatasheetVersion: revC, Dec-2006; PackageVersion: revBB, Aug-2009; PackageReference: SOT-23-CH6; PackageDescription: 6-Lead Plastic Small Outline Transistor (CH) [SOT-23]; Supplier 1: Digi-Key; Supplier Part Number 1: MCP4012T-502E/CHTR-ND; Supplier 2: Digi-Key; Supplier Part Number 2: MCP4012T-502E/CHCT-ND; Supplier 3: Digi-Key; Supplier Part Number 3: MCP4012T-502E/CHDKR-ND; Supplier 4: Farnell; Supplier Part Number 4: 1840744; Supplier 5: Newark; Supplier Part Number 5: 84R6247; Supplier 6: Mouser; Supplier Part Number 6: 579-MCP4012T-502E/CH; Mounting Technology: Surface Mount; Code_IPC: SOT26A-6; ComponentLink1Description: Manufacturer URL; ComponentLink1URL: http://www.microchip.com/; ComponentLink2Description: Datasheet; ComponentLink2URL: http://ww1.microchip.com/downloads/en/DeviceDoc/21978c.pdf; ComponentLink3Description: Package Specification; ComponentLink3URL: http://www.microchip.com/stellent/groups/techpub_sg/documents/packagingspec/en012702.pdf
footprint SOT-23-CH6_N (SOT23, 6-Leads, Body 2.9x1.6mm, Pitch 0.95mm, Lead Span 2.7mm, IPC Medium Density)
footprint SOT-23-CH6_L (SOT23, 6-Leads, Body 2.9x1.6mm, Pitch 0.95mm, Lead Span 2.7mm, IPC High Density)
footprint SOT-23-CH6_M (SOT23, 6-Leads, Body 2.9x1.6mm, Pitch 0.95mm, Lead Span 2.7mm, IPC Low Density)
pins: 1 VDD (power), 2 VSS (power), 3 U/~{D} (in), 4 ~{CS} (in), 5 W, 6 A